# Altium schematic symbol library L.SchLib: 1 symbol
Pins are listed as number, name and electrical type; pins without a type are passive.

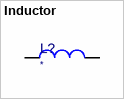
[diagram p0: symbol Inductor]

## Inductor
designator L?
ID: *; PRICE: *; BUY_LINK: *; PDF: *
footprint L0603
footprint L0402
footprint L1206
footprint L0805
footprint PM1608
pins: 1, 2